# Altium footprint library 自己的封装图库.PcbLib: 60 footprints (part 3 of 4)
Each footprint in its own frame and in the unit in brackets; x right, y up, seen from the top. Pads: shape width x height; smd on the part's side, far side on the other; paste and mask are expansions set on the pad; w line width, h text height; cw(c..) or ccw(c..) is an arc to the next point about the centre after c.
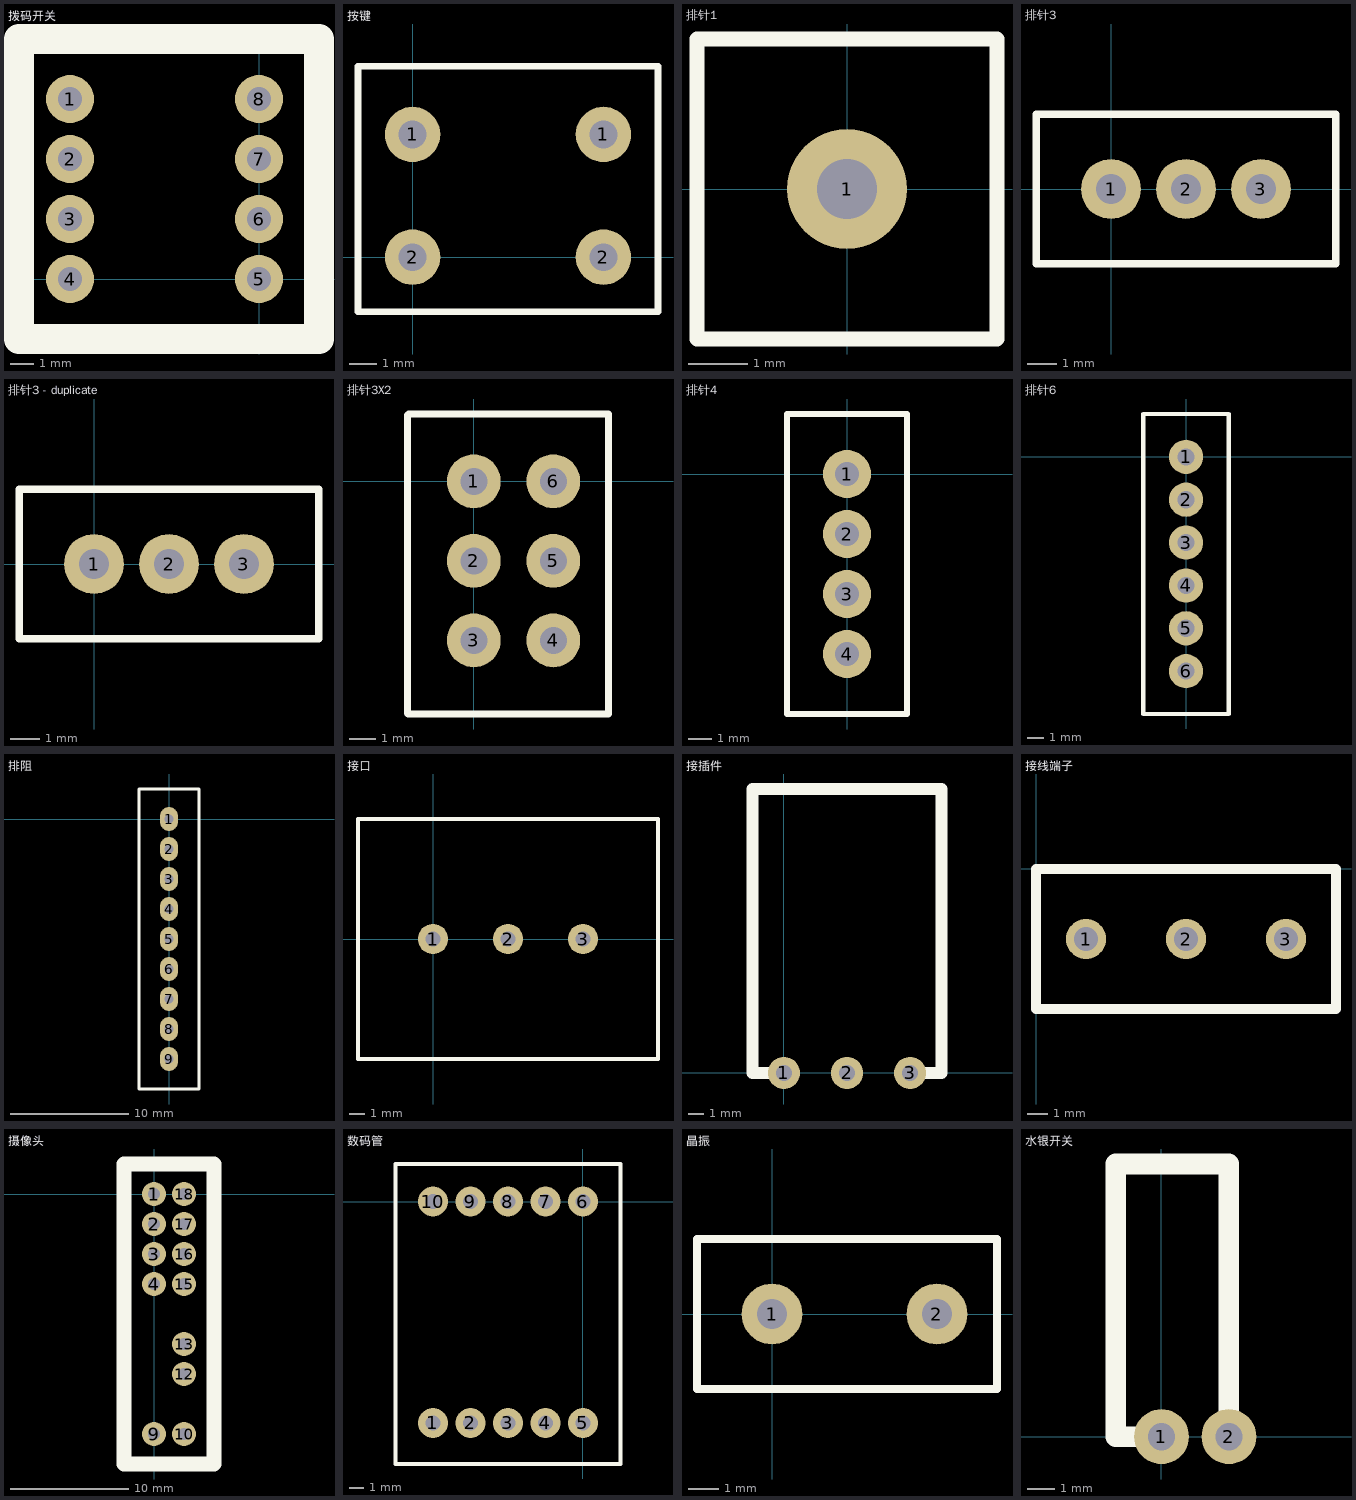
[diagram p2: the footprints below, top view; thin cyan lines are the x and y axes]

## 拨码开关 [mil]
pads (8):
  round 80 hole 40: 1(-314.96,300) 2(-314.96,200) 3(-314.96,100) 4(-314.96,0) 5(0,0) 6(0,100) 7(0,200) 8(0,300)
Top Overlay:
  lines w50: -400,-100 100,-100 100,400 -400,400 -400,-100

## 按键 [mil]
pads (4):
  round 80 hole 40: 1(0,177.17) 1(275.59,177.17) 2(0,0) 2(275.59,0)
Top Overlay:
  lines w10: -78.74,-78.74 354.33,-78.74 354.33,275.59 0,275.59 -78.74,275.59 -78.74,-78.74

## 排针1 [mil]
pads (1):
  round 80 hole 40: 1(0,0)
Top Overlay:
  lines w10: -100,-100 100,-100 100,100 0,100 -100,100 -100,-100

## 排针3 [mil]
pads (3):
  round 80 hole 40: 1(0,0) 2(100,0) 3(200,0)
Top Overlay:
  lines w10: -100,-100 -100,100 0,100 300,100 300,-100 -100,-100

## 排针3 - duplicate [mil]
pads (3):
  round 80 hole 40: 1(0,0) 2(100,0) 3(200,0)
Top Overlay:
  lines w10: -100,-100 300,-100 300,100 0,100 -100,100 -100,-100

## 排针3X2 [mil]
pads (6):
  round 80 hole 40: 1(0,0) 2(0,-118.11) 3(0,-236.22) 4(118.11,-236.22) 5(118.11,-118.11) 6(118.11,0)
Top Overlay:
  lines w10: -98.43,-344.88 -98.43,98.43 -96.85,100 0,100 200,100 200,-300 200,-345.67 -97.64,-345.67 -98.43,-344.88

## 排针4 [mil]
pads (4):
  round 80 hole 40: 1(0,0) 2(0,-100) 3(0,-200) 4(0,-300)
Top Overlay:
  lines w10: -100,-400 -100,100 0,100 100,100 100,-400 -100,-400

## 排针6 [mil]
pads (6):
  round 80 hole 40: 1(0,0) 2(0,-100) 3(0,-200) 4(0,-300) 5(0,-400) 6(0,-500)
Top Overlay:
  lines w10: -100,-600 -100,100 100,100 100,-600 -100,-600

## 排阻 [mil]
pads (9):
  oval 60x80 hole 30: 1(0,0) 2(0,-100) 3(0,-200) 4(0,-300) 5(0,-400) 6(0,-500) 7(0,-600) 8(0,-700) 9(0,-800)
Top Overlay:
  lines w10: -100,-900 -100,100 100,100 100,-900 -100,-900

## 接口 [mil]
pads (3):
  round 80 hole 40: 1(0,0) 2(196.85,0) 3(393.7,0)
Top Overlay:
  lines w10: -196.85,-314.96 -196.85,0 -196.85,314.96 590.55,314.96 590.55,0 590.55,-314.96 -196.85,-314.96

## 接插件 [mil]
pads (3):
  round 80 hole 40: 1(0,0) 2(157.48,0) 3(314.96,0)
Top Overlay:
  lines w30: 0,0 -78.74,0 -78.74,708.66 393.7,708.66 393.7,0 314.96,0

## 接线端子 [mm]
pads (3):
  round 2 hole 1.2: 1(2.5,-3.5) 2(7.5,-3.5) 3(12.5,-3.5)
Top Overlay:
  lines w0.5: 0,-7 15,-7 15,0 0,0 0,-7

## 摄像头 [mil]
pads (12):
  round 80 hole 40: 1(0,0) 2(0,-100) 3(0,-200) 4(0,-300) 9(0,-800) 10(100,-800) 12(100,-600) 13(100,-500) 15(100,-300) 16(100,-200) 17(100,-100) 18(100,0)
Top Overlay:
  lines w50: -100,-900 200,-900 200,100 -100,100 -100,-900

## 数码管 [mil]
pads (10):
  round 80 hole 40: 1(-400,-590.55) 2(-300,-590.55) 3(-200,-590.55) 4(-100,-590.55) 5(0,-590.55) 6(0,0) 7(-100,0) 8(-200,0) 9(-300,0) 10(-400,0)
Top Overlay:
  lines w10: -500,-700 -400,-700 100,-700 100,100 -500,100 -500,-700

## 晶振 [mil]
pads (2):
  round 80 hole 40: 1(0,0) 2(216.54,0)
Top Overlay:
  lines w10: -98.43,-98.43 -98.43,98.43 0,98.43 295.28,98.43 295.28,-98.43 0,-98.43 -98.43,-98.43

## 水银开关 [mil]
pads (2):
  round 80 hole 40: 1(0,0) 2(98.43,0)
Top Overlay:
  lines w30: 0,0 -66.93,0 -66.93,78.74 -66.93,334.65 -66.93,397.64 98.43,397.64 98.43,0